# EAGLE library part LPC176X (library ld-components)
NXP LCP176x
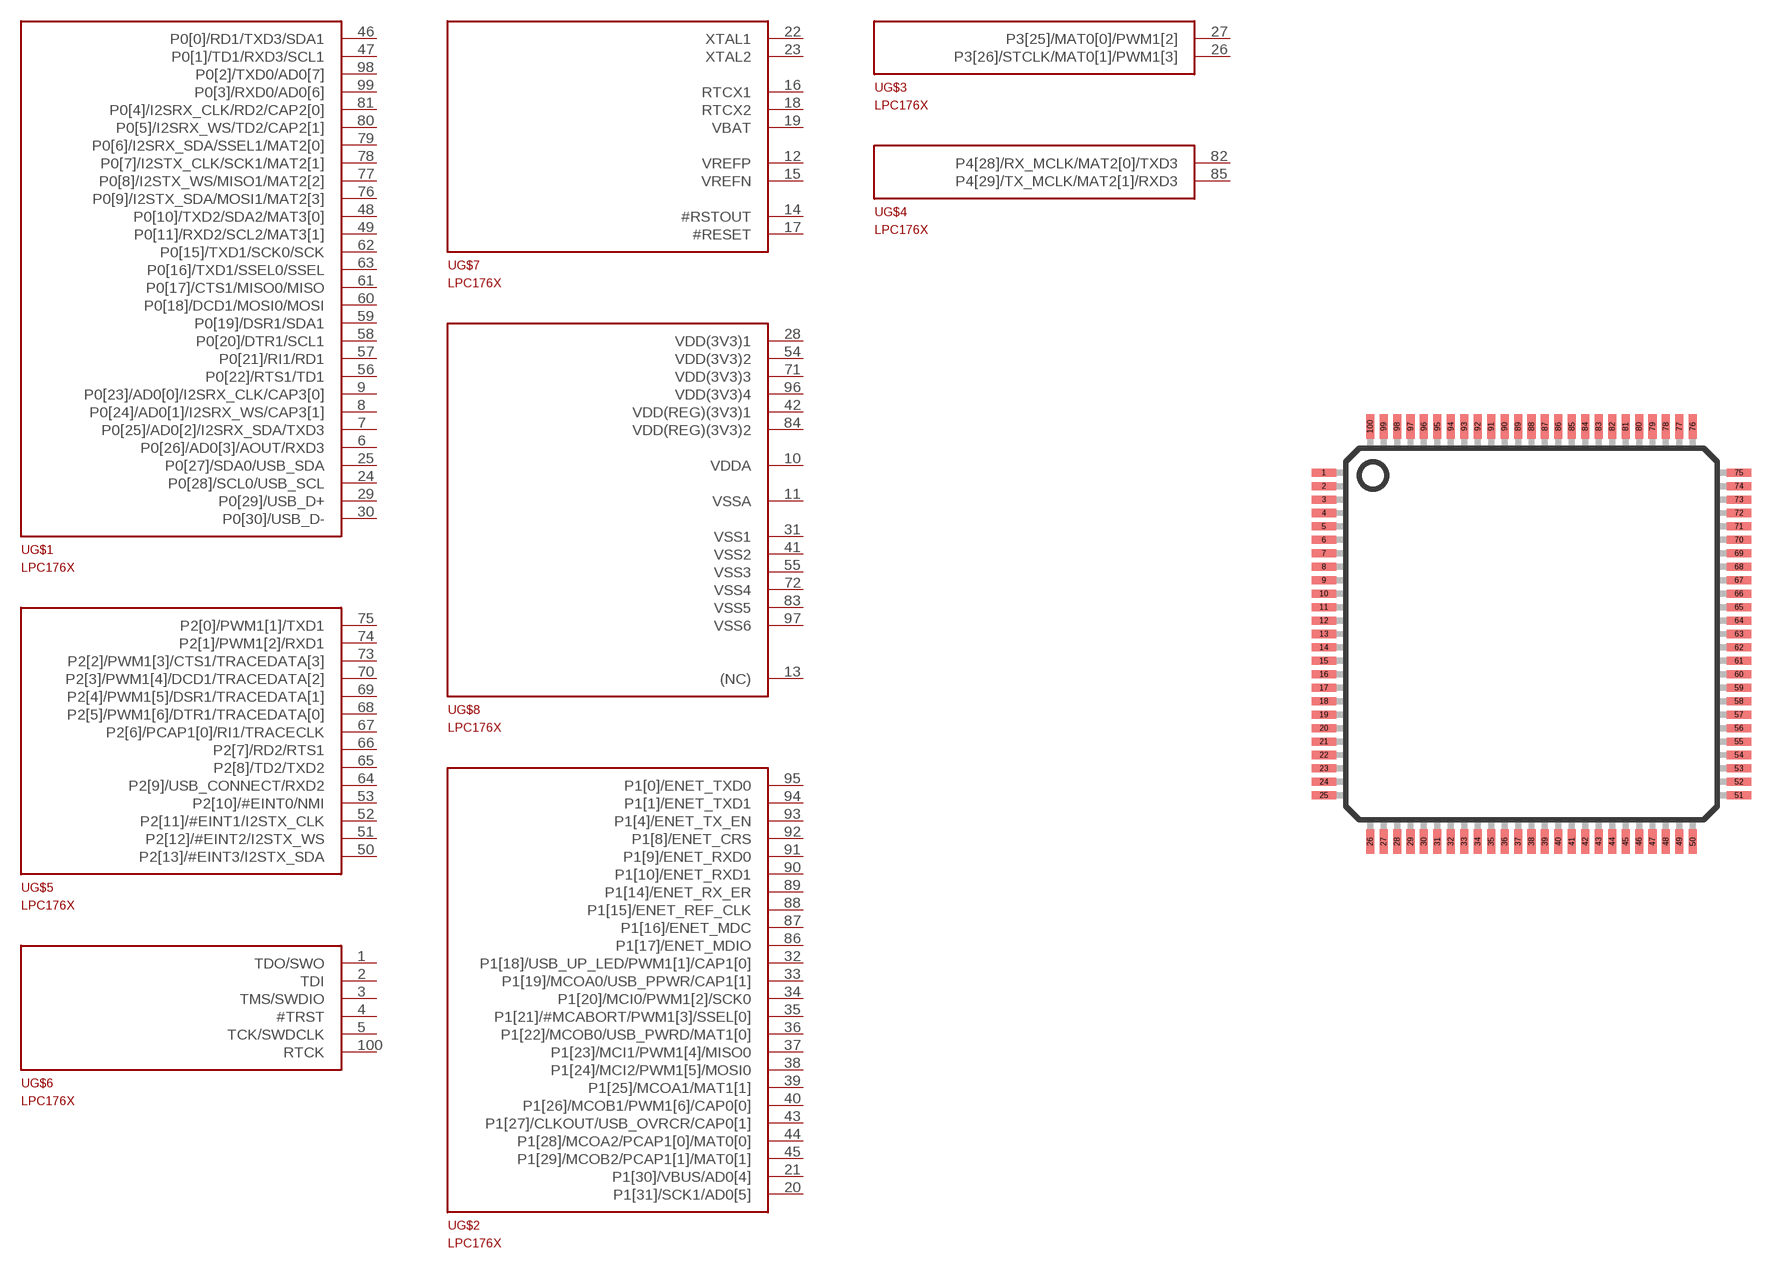
[diagram p3: symbol with the pads of LQFP100; footprint LQFP100]

Designator prefix -; gates G$1=LPC176X_A G$5=LPC176X_B G$6=LPC176X_C G$7=LPC176X_D G$8=LPC176X_E G$2=LPC176X_F G$3=LPC176X_G G$4=LPC176X_H

## LPC176X  [LQFP100]
1  G$6:TDO/SWO
2  G$6:TDI
3  G$6:TMS/SWDIO
4  G$6:#TRST
5  G$6:TCK/SWDCLK
6  G$1:P0[26]/AD0[3]/AOUT/RXD3
7  G$1:P0[25]/AD0[2]/I2SRX_SDA/TXD3
8  G$1:P0[24]/AD0[1]/I2SRX_WS/CAP3[1]
9  G$1:P0[23]/AD0[0]/I2SRX_CLK/CAP3[0]
10  G$8:VDDA
11  G$8:VSSA
12  G$7:VREFP
13  G$8:(NC)
14  G$7:#RSTOUT
15  G$7:VREFN
16  G$7:RTCX1
17  G$7:#RESET
18  G$7:RTCX2
19  G$7:VBAT
20  G$2:P1[31]/SCK1/AD0[5]
21  G$2:P1[30]/VBUS/AD0[4]
22  G$7:XTAL1
23  G$7:XTAL2
24  G$1:P0[28]/SCL0/USB_SCL
25  G$1:P0[27]/SDA0/USB_SDA
26  G$3:P3[26]/STCLK/MAT0[1]/PWM1[3]
27  G$3:P3[25]/MAT0[0]/PWM1[2]
28  G$8:VDD(3V3)1
29  G$1:P0[29]/USB_D+
30  G$1:P0[30]/USB_D-
31  G$8:VSS1
32  G$2:P1[18]/USB_UP_LED/PWM1[1]/CAP1[0]
33  G$2:P1[19]/MCOA0/USB_PPWR/CAP1[1]
34  G$2:P1[20]/MCI0/PWM1[2]/SCK0
35  G$2:P1[21]/#MCABORT/PWM1[3]/SSEL[0]
36  G$2:P1[22]/MCOB0/USB_PWRD/MAT1[0]
37  G$2:P1[23]/MCI1/PWM1[4]/MISO0
38  G$2:P1[24]/MCI2/PWM1[5]/MOSI0
39  G$2:P1[25]/MCOA1/MAT1[1]
40  G$2:P1[26]/MCOB1/PWM1[6]/CAP0[0]
41  G$8:VSS2
42  G$8:VDD(REG)(3V3)1
43  G$2:P1[27]/CLKOUT/USB_OVRCR/CAP0[1]
44  G$2:P1[28]/MCOA2/PCAP1[0]/MAT0[0]
45  G$2:P1[29]/MCOB2/PCAP1[1]/MAT0[1]
46  G$1:P0[0]/RD1/TXD3/SDA1
47  G$1:P0[1]/TD1/RXD3/SCL1
48  G$1:P0[10]/TXD2/SDA2/MAT3[0]
49  G$1:P0[11]/RXD2/SCL2/MAT3[1]
50  G$5:P2[13]/#EINT3/I2STX_SDA
51  G$5:P2[12]/#EINT2/I2STX_WS
52  G$5:P2[11]/#EINT1/I2STX_CLK
53  G$5:P2[10]/#EINT0/NMI
54  G$8:VDD(3V3)2
55  G$8:VSS3
56  G$1:P0[22]/RTS1/TD1
57  G$1:P0[21]/RI1/RD1
58  G$1:P0[20]/DTR1/SCL1
59  G$1:P0[19]/DSR1/SDA1
60  G$1:P0[18]/DCD1/MOSI0/MOSI
61  G$1:P0[17]/CTS1/MISO0/MISO
62  G$1:P0[15]/TXD1/SCK0/SCK
63  G$1:P0[16]/TXD1/SSEL0/SSEL
64  G$5:P2[9]/USB_CONNECT/RXD2
65  G$5:P2[8]/TD2/TXD2
66  G$5:P2[7]/RD2/RTS1
67  G$5:P2[6]/PCAP1[0]/RI1/TRACECLK
68  G$5:P2[5]/PWM1[6]/DTR1/TRACEDATA[0]
69  G$5:P2[4]/PWM1[5]/DSR1/TRACEDATA[1]
70  G$5:P2[3]/PWM1[4]/DCD1/TRACEDATA[2]
71  G$8:VDD(3V3)3
72  G$8:VSS4
73  G$5:P2[2]/PWM1[3]/CTS1/TRACEDATA[3]
74  G$5:P2[1]/PWM1[2]/RXD1
75  G$5:P2[0]/PWM1[1]/TXD1
76  G$1:P0[9]/I2STX_SDA/MOSI1/MAT2[3]
77  G$1:P0[8]/I2STX_WS/MISO1/MAT2[2]
78  G$1:P0[7]/I2STX_CLK/SCK1/MAT2[1]
79  G$1:P0[6]/I2SRX_SDA/SSEL1/MAT2[0]
80  G$1:P0[5]/I2SRX_WS/TD2/CAP2[1]
81  G$1:P0[4]/I2SRX_CLK/RD2/CAP2[0]
82  G$4:P4[28]/RX_MCLK/MAT2[0]/TXD3
83  G$8:VSS5
84  G$8:VDD(REG)(3V3)2
85  G$4:P4[29]/TX_MCLK/MAT2[1]/RXD3
86  G$2:P1[17]/ENET_MDIO
87  G$2:P1[16]/ENET_MDC
88  G$2:P1[15]/ENET_REF_CLK
89  G$2:P1[14]/ENET_RX_ER
90  G$2:P1[10]/ENET_RXD1
91  G$2:P1[9]/ENET_RXD0
92  G$2:P1[8]/ENET_CRS
93  G$2:P1[4]/ENET_TX_EN
94  G$2:P1[1]/ENET_TXD1
95  G$2:P1[0]/ENET_TXD0
96  G$8:VDD(3V3)4
97  G$8:VSS6
98  G$1:P0[2]/TXD0/AD0[7]
99  G$1:P0[3]/RXD0/AD0[6]
100  G$6:RTCK

## Footprint LQFP100 (pad centres in mm)
Low Profile Quad Flat Pack
smd 0.9 x 0.3: 1 -7.72,6; 2 -7.72,5.5; 3 -7.72,5; 4 -7.72,4.5; 5 -7.72,4; 6 -7.72,3.5; 7 -7.72,3; 8 -7.72,2.5; 9 -7.72,2; 10 -7.72,1.5; 11 -7.72,1; 12 -7.72,0.5; 13 -7.72,0; 14 -7.72,-0.5; 15 -7.72,-1; 16 -7.72,-1.5; 17 -7.72,-2; 18 -7.72,-2.5; 19 -7.72,-3; 20 -7.72,-3.5; 21 -7.72,-4; 22 -7.72,-4.5; 23 -7.72,-5; 24 -7.72,-5.5; 25 -7.72,-6; 51 7.72,-6; 52 7.72,-5.5; 53 7.72,-5; 54 7.72,-4.5; 55 7.72,-4; 56 7.72,-3.5; 57 7.72,-3; 58 7.72,-2.5; 59 7.72,-2; 60 7.72,-1.5; 61 7.72,-1; 62 7.72,-0.5; 63 7.72,0; 64 7.72,0.5; 65 7.72,1; 66 7.72,1.5; 67 7.72,2; 68 7.72,2.5; 69 7.72,3; 70 7.72,3.5; 71 7.72,4; 72 7.72,4.5; 73 7.72,5; 74 7.72,5.5; 75 7.72,6
smd 0.3 x 0.9: 26 -6,-7.72; 27 -5.5,-7.72; 28 -5,-7.72; 29 -4.5,-7.72; 30 -4,-7.72; 31 -3.5,-7.72; 32 -3,-7.72; 33 -2.5,-7.72; 34 -2,-7.72; 35 -1.5,-7.72; 36 -1,-7.72; 37 -0.5,-7.72; 38 0,-7.72; 39 0.5,-7.72; 40 1,-7.72; 41 1.5,-7.72; 42 2,-7.72; 43 2.5,-7.72; 44 3,-7.72; 45 3.5,-7.72; 46 4,-7.72; 47 4.5,-7.72; 48 5,-7.72; 49 5.5,-7.72; 50 6,-7.72; 76 6,7.72; 77 5.5,7.72; 78 5,7.72; 79 4.5,7.72; 80 4,7.72; 81 3.5,7.72; 82 3,7.72; 83 2.5,7.72; 84 2,7.72; 85 1.5,7.72; 86 1,7.72; 87 0.5,7.72; 88 0,7.72; 89 -0.5,7.72; 90 -1,7.72; 91 -1.5,7.72; 92 -2,7.72; 93 -2.5,7.72; 94 -3,7.72; 95 -3.5,7.72; 96 -4,7.72; 97 -4.5,7.72; 98 -5,7.72; 99 -5.5,7.72; 100 -6,7.72